# EAGLE library part CC1101 (library modules)
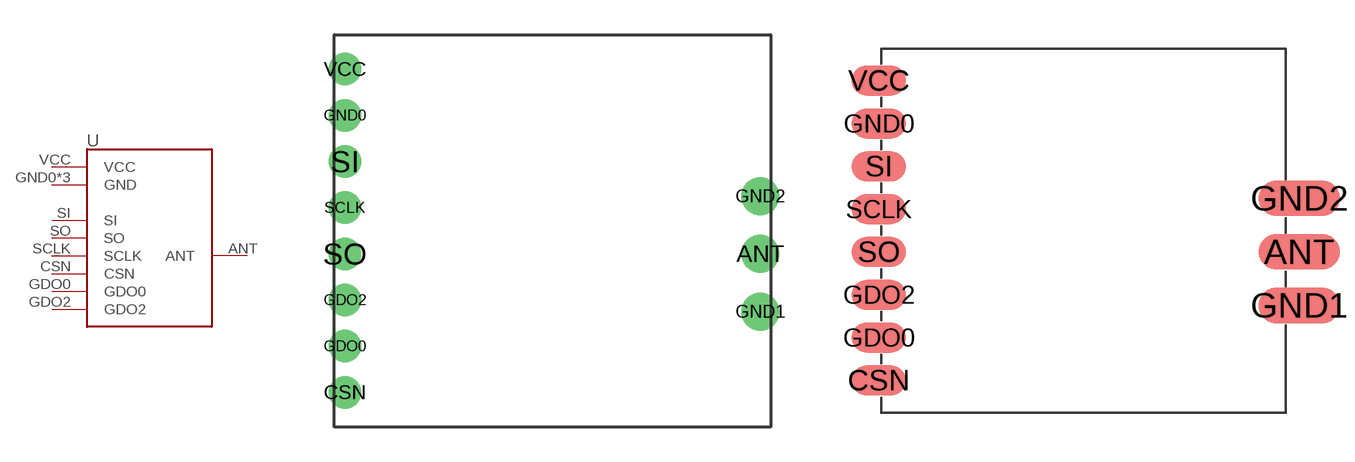
[diagram p1: symbol with the pads of CC1101; footprints CC1101, CC1101-SMD]

Designator prefix -

## CC1101  [CC1101]
ANT  ANT  in
CSN  CSN
GDO0  GDO0  out
GDO2  GDO2  out
GND0  GND  pwr
GND1  GND  pwr
GND2  GND  pwr
SCLK  SCLK  in
SI  SI  in
SO  SO  out
VCC  VCC  pwr

## CC1101SMD  [CC1101-SMD]
Pads as for CC1101

## CC1101E07-SMD  [E07-M1101S-SMD]
ANT  ANT  in
CSN  CSN
GDO0  GDO0  out
GDO2  GDO2  out
GND0  GND  pwr
GND1  GND  pwr
SCLK  SCLK  in
SI  SI  in
SO  SO  out
VCC  VCC  pwr

## CC1101E07-DRILL  [E07-M1101S]
Pads as for E07-M1101S-SMD

## Footprint CC1101 (pad centres in mm)
drill 1.1: ANT 9,-1; GND1 9,-3.5; GND2 9,1.5
drill 0.9: CSN -9,-7; GDO0 -9,-5; GDO2 -9,-3; GND0 -9,5; SCLK -9,1; SI -9,3; SO -9,-1; VCC -9,7

## Footprint CC1101-SMD (pad centres in mm)
smd 3.81 x 1.65: ANT 10.075,-1; GND1 10.075,-3.5; GND2 10.075,1.5
smd 2.54 x 1.4: CSN -9.565,-7; GDO0 -9.565,-5; GDO2 -9.565,-3; GND0 -9.565,5; SCLK -9.565,1; SI -9.565,3; SO -9.565,-1; VCC -9.565,7

## Footprint E07-M1101S-SMD (pad centres in mm)
smd 2.54 x 1.499: ANT 10.25,-5.295; GND1 10.25,-2.945
smd 1.778 x 0.914: CSN -9.9,1.905; GDO0 -9.9,3.175; GDO2 -9.9,-3.175; GND0 -9.9,-4.445; SCLK -9.9,0.635; SI -9.9,-0.635; SO -9.9,-1.905; VCC -9.9,4.445

## Footprint E07-M1101S (pad centres in mm)
drill 0.9 long: ANT 8.44,-5.32; GND1 8.44,-2.95
drill 0.7 long: CSN -8.25,1.905; GDO0 -8.25,3.175; GDO2 -8.25,-3.175; GND0 -8.25,-4.445; SCLK -8.25,0.635; SI -8.25,-0.635; SO -8.25,-1.905; VCC -8.25,4.445